# Altium footprint library Revo_element.PcbLib: 178 footprints (part 3 of 12)
Each footprint in its own frame and in the unit in brackets; x right, y up, seen from the top. Pads: shape width x height; smd on the part's side, far side on the other; paste and mask are expansions set on the pad; w line width, h text height; cw(c..) or ccw(c..) is an arc to the next point about the centre after c.
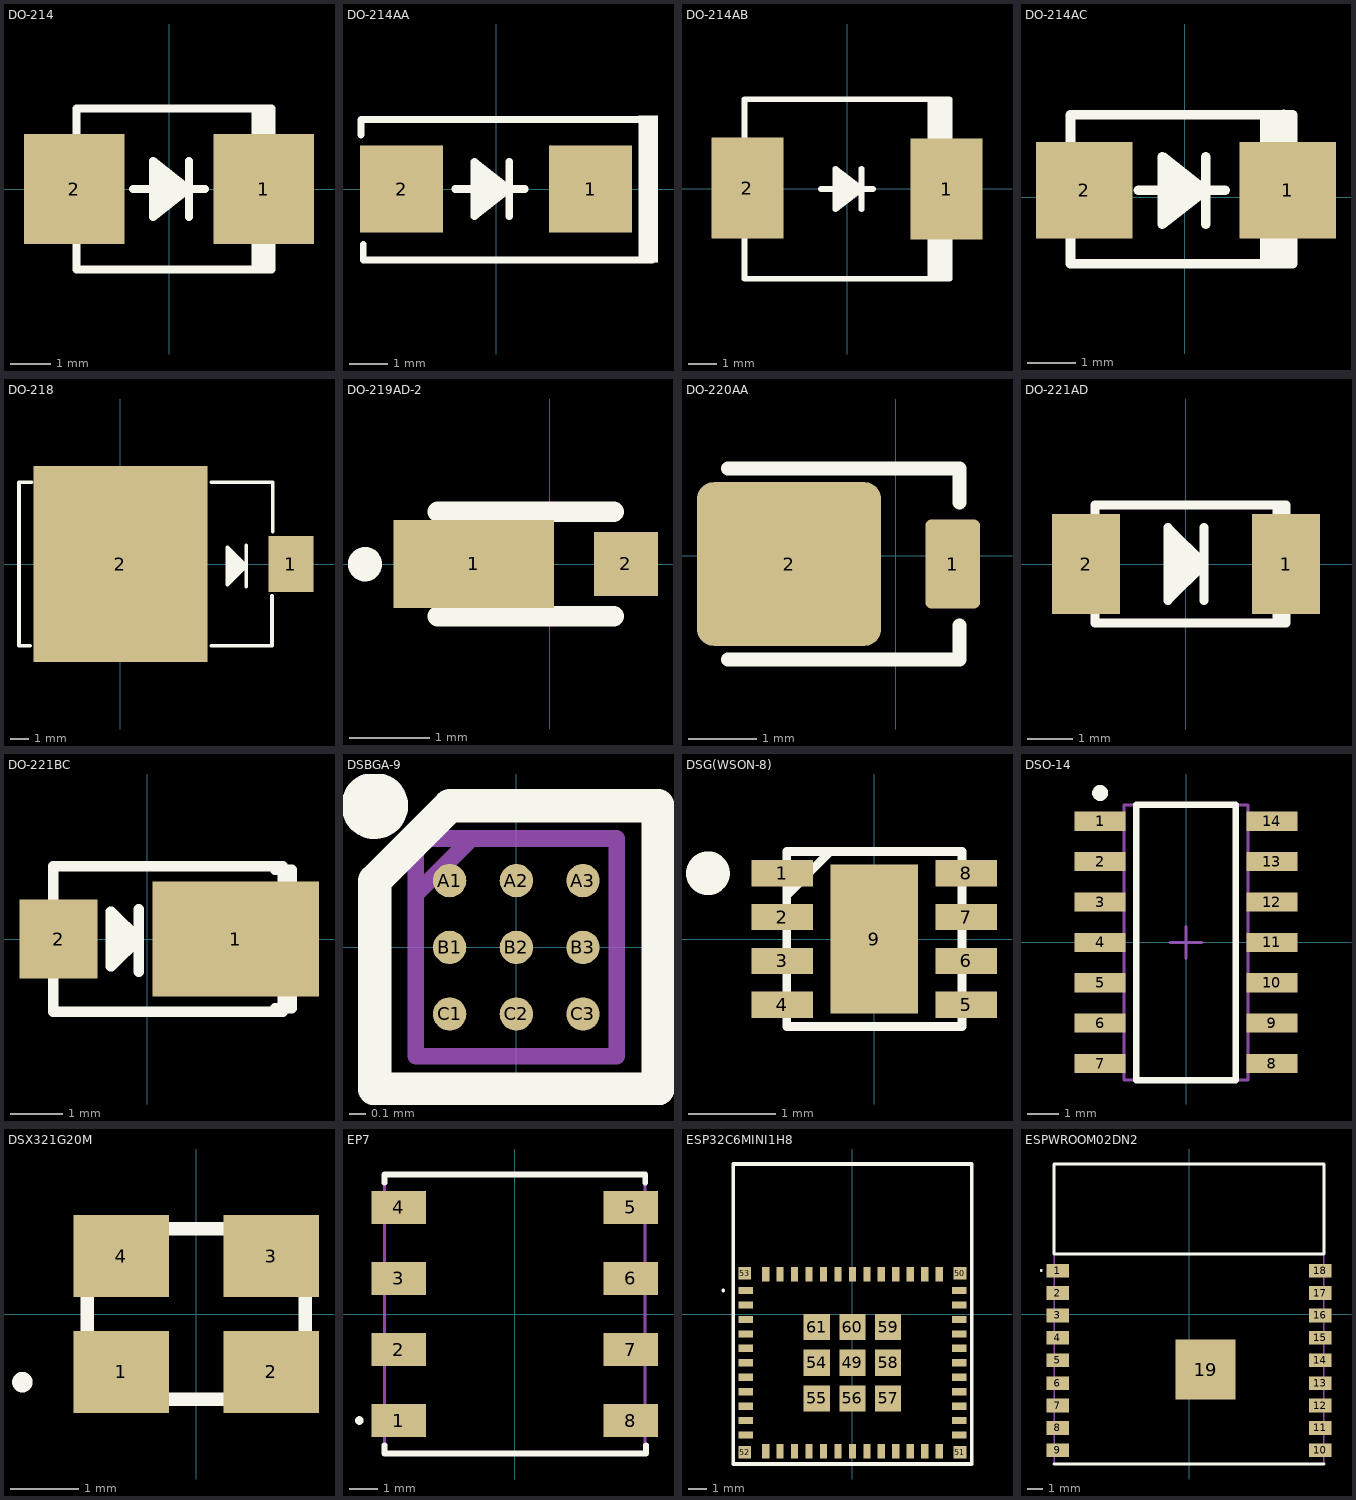
[diagram p2: the footprints below, top view; thin cyan lines are the x and y axes]

## DO-214 [mm]
pads (2):
  rect 2.5x2.75 smd: 1(2.36,0) 2(-2.36,0)
Top Overlay:
  lines w0.2: -0.9,0 0.9,0 ; 0.5,-0.7 0.5,0.7 ; 2.2,-2 2.25,-2 ; 2.2,-2 2.2,2 ; 2.2,-2 2.2,2 ; 2.2,-2 2.15,-2 2.15,2 2.2,2 ; 2.2,2 2.25,2 ; 2.25,-2 2.3,-2 ; 2.25,-2 2.25,2 ; 2.25,-2 2.25,2 ; 2.25,2 2.3,2 ; 2.3,-2 2.3,2 ; 2.3,-2 -2.3,-2 -2.3,2 2.3,2 ; 2.3,-2 2.35,-2 ; 2.3,-2 2.3,2 ; 2.3,-2 2.3,2 ; 2.3,2 2.35,2 ; 2.35,-2 2.35,2 ; 2.35,-2 2.4,-2 ; 2.35,-2 2.35,2 ; 2.35,2 2.4,2 ; 2.4,-2 2.4,2 ; 2.4,-2 2.45,-2 ; 2.4,-2 2.4,2 ; 2.4,2 2.45,2 ; 2.45,-2 2.45,2 ; 2.45,-2 2.5,-2 ; 2.45,-2 2.45,2 ; 2.45,2 2.5,2 ; 2.5,-2 2.5,2 ; 2.5,-2 2.55,-2 2.55,2 2.5,2 ; 2.5,-2 2.5,2 ; -0.4,-0.7 -0.4,0.7 0.5,0 -0.4,-0.7 ; -0.35,-0.6 -0.35,0.6 0.35,0.05 0.35,-0.05 -0.35,-0.6 ; -0.35,-0.5 -0.35,0.5 0.3,0 -0.35,-0.5 ; -0.35,-0.45 -0.35,0.4 0.2,0 -0.35,-0.45 ; -0.3,-0.35 -0.3,0.3 0.1,0 -0.3,-0.35 ; -0.25,-0.25 -0.25,0.2 0,0 -0.25,-0.25 ; -0.2,-0.1 -0.2,0.1 -0.1,0 -0.2,-0.1
3D body "DO-214AA.stp": height 2.65, standoff 0, extent -2.8,-1.975 2.8,1.975

## DO-214AA [mm]
pads (2):
  rect 2.16x2.26 smd: 1(2.45,0) 2(-2.45,0)
Top Overlay:
  region: 4.2,1.9 3.692,1.9 3.692,-1.9 4.2,-1.9
  lines w0.178: -3.5,1.4 -3.5,1.8 4,1.8 ; -3.446,-1.441 -3.446,-1.841 4.054,-1.841
  lines w0.2: -1.058,0 0.742,0 ; 0.342,-0.7 0.342,0.7 ; -0.558,-0.7 -0.558,0.7 0.342,0 -0.558,-0.7 ; -0.508,-0.6 -0.508,0.6 0.192,0.05 0.192,-0.05 -0.508,-0.6 ; -0.508,-0.5 -0.508,0.5 0.142,0 -0.508,-0.5 ; -0.508,-0.45 -0.508,0.4 0.042,0 -0.508,-0.45 ; -0.458,-0.35 -0.458,0.3 -0.058,0 -0.458,-0.35 ; -0.408,-0.25 -0.408,0.2 -0.158,0 -0.408,-0.25 ; -0.358,-0.1 -0.358,0.1 -0.258,0 -0.358,-0.1
3D body "User Library-DO-214AA SMB.step": height 2.3, standoff 0, extent -2.536,-1.8 2.864,1.8

## DO-214AB [mm]
pads (2):
  rect 2.5x3.5 smd: 1(3.45,-0.014) 2(-3.45,0.015)
Top Overlay:
  lines w0.2: -0.9,-0.014 0.9,-0.014 ; 0.5,-0.714 0.5,0.686 ; 2.891,-3.08 2.898,3.063 ; 3.065,-3.101 3.072,3.042 ; 3.19,-3.087 3.197,3.056 ; 3.378,-3.08 3.385,3.063 ; -3.555,-3.124 3.555,-3.124 3.555,3.096 -3.555,3.096 -3.555,-3.124 ; -0.4,-0.714 -0.4,0.686 0.5,-0.014 -0.4,-0.714 ; -0.35,-0.614 -0.35,0.586 0.35,0.036 0.35,-0.064 -0.35,-0.614 ; -0.35,-0.514 -0.35,0.486 0.3,-0.014 -0.35,-0.514 ; -0.35,-0.464 -0.35,0.386 0.2,-0.014 -0.35,-0.464 ; -0.3,-0.364 -0.3,0.286 0.1,-0.014 -0.3,-0.364 ; -0.25,-0.264 -0.25,0.186 0,-0.014 -0.25,-0.264 ; -0.2,-0.114 -0.2,0.086 -0.1,-0.014 -0.2,-0.114
3D body "DO-214AB.stp": height 2.65, standoff 0, extent -4.225,-3.125 3.925,3.125

## DO-214AC [mm]
pads (2):
  rect 2x2 smd: 1(2.129,0.143) 2(-2.086,0.143)
Top Overlay:
  lines w0.2: -0.971,0.143 0.829,0.143 ; 0.429,-0.557 0.429,0.843 ; 1.659,-1.373 1.659,1.713 ; 1.852,-1.373 1.852,1.713 ; 2.046,-1.369 2.046,1.717 ; -2.371,-1.373 2.229,-1.373 2.229,1.713 -2.371,1.713 -2.371,-1.373 ; -0.471,-0.557 0.429,0.143 -0.471,0.843 -0.471,-0.557 ; -0.421,-0.457 -0.421,0.743 0.279,0.193 0.279,0.093 -0.421,-0.457 ; -0.421,-0.357 -0.421,0.643 0.229,0.143 -0.421,-0.357 ; -0.421,-0.307 0.129,0.143 -0.421,0.543 -0.421,-0.307 ; -0.371,-0.207 0.029,0.143 -0.371,0.443 -0.371,-0.207 ; -0.321,-0.107 -0.321,0.343 -0.071,0.143 -0.321,-0.107 ; -0.271,0.043 -0.171,0.143 -0.271,0.243 -0.271,0.043
3D body "DO-214AC.stp": height 2.9, standoff 0, extent -2.871,-1.332 2.729,1.618

## DO-218 [mm]
pads (2):
  rect 2.4x3 smd: 1(9.129,0)
  rect 9.3x10.5 smd: 2(0,0)
Top Overlay:
  region: 5.729,-1.103 6.729,-0.103 5.729,0.897
  lines w0.2: -4.833,-4.371 -5.427,-4.371 -5.427,4.371 -4.757,4.371 ; 4.856,-4.371 8.115,-4.371 8.115,-1.709 ; 4.856,4.371 8.155,4.371 8.155,1.736 ; 5.829,0.597 5.829,-0.803 6.479,-0.153 5.879,0.447 5.879,-0.603 6.354,-0.128 5.929,0.297 5.929,-0.403 6.229,-0.103 6.029,0.097 6.029,-0.203 ; 5.929,0.597 6.479,0.047 ; 6.729,-1.203 6.729,0.997 ; 5.729,-1.103 6.729,-0.103 5.729,0.897 5.729,-1.103
3D body "User Library-DO-218AB.STEP": height 5, standoff 0, extent -5.429,-5 10,5

## DO-219AD-2 [mm]
pads (2):
  rect 2x1.1 smd: 1(-0.95,0)
  rect 0.8x0.8 smd: 2(0.95,0)
Top Overlay:
  circle w0.254: c-2.306,-0.002 r0.087
  lines w0.254: -1.4,-0.65 0.8,-0.65 ; -1.4,0.65 0.8,0.65
3D body "MSS1P3L-M3_89A.stp": height 0.68, standoff 0, extent -1.44,-0.628 1.06,0.672

## DO-220AA [mm]
pads (2):
  rrect20% 0.8x1.3 smd mask+0.05: 1(0.835,-0.118)
  rrect20% 2.7x2.4 smd mask+0.05: 2(-1.565,-0.118)
Top Overlay:
  lines w0.2: -2.465,-1.518 0.935,-1.518 0.935,-1.018 ; -2.465,1.282 0.935,1.282 0.935,0.782
3D body "User Library-DO-220AA-1.STEP": height 1.15, standoff 0, extent -2.794,-1.272 1.135,1.036

## DO-221AD [mm]
pads (2):
  rect 1.5x2.2 smd: 1(2.2,0) 2(-2.2,0)
Top Overlay:
  region: 2,-1.3 2,1.3 2.2,1.3 2.2,-1.3
  region: -0.4,-0.8 0.4,0 -0.4,0.8
  lines w0.2: 0.4,-0.8 0.4,0.8 ; 2,-1.3 2,1.3 ; 2,-1.3 -2,-1.3 -2,1.3 2,1.3 ; 2,-1.3 2.2,-1.3 2.2,1.3 2,1.3 ; 2,-1.3 2,1.3 ; -0.4,-0.8 -0.4,0.8 0.4,0 -0.4,-0.8
3D body "SlimSMAW.STEP": height 1, standoff 0, extent -2.329,-1.263 2.371,1.237

## DO-221BC [mm]
pads (2):
  rect 3.2x2.2 smd: 1(1.7,0)
  rect 1.5x1.52 smd: 2(-1.7,0)
Top Overlay:
  region: -0.703,-0.524 -0.703,0.524 -0.687,0.524 -0.163,0
  lines w0.2: -0.703,-0.524 -0.703,0.524 ; -0.687,-0.524 -0.163,0 -0.687,0.524 ; -0.163,-0.629 -0.163,0.576 ; 2.46,-1.33 2.78,-1.33 2.78,1.33 2.46,1.33 ; -1.8,-1.4 2.6,-1.4 2.6,1.4 -1.8,1.4 -1.8,-1.4
3D body "SMPA.STEP": height 0.96, standoff 0.01, extent -2.213,-1.319 2.987,1.281

## DSBGA-9 [mm]
pads (9):
  round 0.2 smd: A1(-0.4,0.4) A2(0,0.4) A3(0.4,0.4) B1(-0.4,0) B2(0,0) B3(0.4,0) C1(-0.4,-0.4) C2(0,-0.4) C3(0.4,-0.4)
Top Overlay:
  circle w0.2: c-0.85,0.85 r0.1
  lines w0.2: -0.85,-0.85 -0.85,0.4 -0.4,0.85 0.85,0.85 0.85,-0.85 -0.85,-0.85
Mechanical 13:
  lines w0.1: -0.603,0.319 -0.269,0.653 ; -0.603,-0.653 -0.603,0.653 0.603,0.653 0.603,-0.653 -0.603,-0.653
3D body "TPS61256CYFFR.stp": height 0.63, standoff 0, extent -0.603,-0.653 0.603,0.653

## DSG(WSON-8) [mm]
pads (9):
  rect 0.7x0.3 smd: 1(-1.05,0.75) 2(-1.05,0.25) 3(-1.05,-0.25) 4(-1.05,-0.75) 5(1.05,-0.75) 6(1.05,-0.25) 7(1.05,0.25) 8(1.05,0.75)
  rect 1x1.7 smd: 9(0,0)
Top Overlay:
  circle w0.25: c-1.9,0.75 r0.125
  lines w0.1: -1,0.5 -0.5,1 ; -1,-1 -1,1 1,1 1,-1 -1,-1
3D body "TPS7A2112PQWDSGRQ1.stp": height 0.77, standoff 0, extent -1,-1 1,1

## DSO-14 [mm] "SOIC,1.27mm pitch;14 pin,3.90mm W X 8.65mm L X 1.75mm H body"
height 1.75
pads (14):
  rect 1.6x0.6 smd paste+0 mask+0: 1(-2.7,3.81) 2(-2.7,2.54) 3(-2.7,1.27) 4(-2.7,0) 5(-2.7,-1.27) 6(-2.7,-2.54) 7(-2.7,-3.81) 8(2.7,-3.81) 9(2.7,-2.54) 10(2.7,-1.27) 11(2.7,0) 12(2.7,1.27) 13(2.7,2.54) 14(2.7,3.81)
Top Overlay:
  circle w0.25: c-2.7,4.699 r0.125
  lines w0.2: -1.57,-4.33 -1.57,4.33 1.57,4.33 1.57,-4.33 -1.57,-4.33
Mechanical 13:
  lines w0.1: -1.95,-4.325 -1.95,4.325 1.95,4.325 1.95,-4.325 -1.95,-4.325
Mechanical 15:
  lines w0.1: -0.5,0 0.5,0 ; 0,-0.5 0,0.5
3D body "PG-DSO-14-49_C66065-A5627-C001-04-0004.stp": height 1.76, standoff 0, extent -3,-4.325 3,4.325

## DSX321G20M [mm]
pads (4):
  rect 1.4x1.2 smd: 1(-1.1,-0.85) 2(1.1,-0.85) 3(1.1,0.85) 4(-1.1,0.85)
Top Overlay:
  lines w0.2: -2.6,-1 ccw(c-2.55,-1) -2.5,-1 ; -2.6,-1 cw(c-2.55,-1) -2.5,-1 ; -2.6,-1 ccw(c-2.55,-1) -2.5,-1 ; -1.6,-1.25 1.6,-1.25 1.6,1.25 -1.6,1.25 -1.6,-1.25
3D body "DSX321G-20M.stp": height 1.1, standoff 0, extent -1.68,-1.33 1.68,1.33

## EP7 [mm]
pads (8):
  rect 1.91x1.17 smd: 1(-4.065,-3.735) 2(-4.065,-1.245) 3(-4.065,1.245) 4(-4.065,3.735) 5(4.065,3.735) 6(4.065,1.245) 7(4.065,-1.245) 8(4.065,-3.735)
Top Overlay:
  lines w0.2: -4.57,-4.6 -4.57,-4.89 4.6,-4.89 4.6,-4.6 ; -4.57,4.6 -4.57,4.89 4.57,4.89 4.57,4.6 ; -5.5,-3.735 ccw(c-5.45,-3.735) -5.4,-3.735 ; -5.5,-3.735 ccw(c-5.45,-3.735) -5.4,-3.735 ; -5.5,-3.735 cw(c-5.45,-3.735) -5.4,-3.735
Mechanical 13:
  lines w0.1: -4.57,-4.89 -4.57,4.89 4.57,4.89 4.57,-4.89 -4.57,-4.89
3D body "750315213.stp": height 10.64, standoff 0, extent -4.903,-4.89 4.903,4.89

## ESP32C6MINI1H8 [mm]
pads (61):
  rect 0.8x0.4 smd: 1(-5.9,1.3) 2(-5.9,0.5) 3(-5.9,-0.3) 4(-5.9,-1.1) 5(-5.9,-1.9) 6(-5.9,-2.7) 7(-5.9,-3.5) 8(-5.9,-4.3) 9(-5.9,-5.1) 10(-5.9,-5.9) 11(-5.9,-6.7) 25(5.9,-6.7) 26(5.9,-5.9) 27(5.9,-5.1) 28(5.9,-4.3) 29(5.9,-3.5) 30(5.9,-2.7) 31(5.9,-1.9) 32(5.9,-1.1) 33(5.9,-0.3) 34(5.9,0.5) 35(5.9,1.3)
  rect 0.4x0.8 smd: 12(-4.8,-7.6) 13(-4,-7.6) 14(-3.2,-7.6) 15(-2.4,-7.6) 16(-1.6,-7.6) 17(-0.8,-7.6) 18(0,-7.6) 19(0.8,-7.6) 20(1.6,-7.6) 21(2.4,-7.6) 22(3.2,-7.6) 23(4,-7.6) 24(4.8,-7.6) 36(4.8,2.2) 37(4,2.2) 38(3.2,2.2) 39(2.4,2.2) 40(1.6,2.2) 41(0.8,2.2) 42(0,2.2) 43(-0.8,2.2) 44(-1.6,2.2) 45(-2.4,2.2) 46(-3.2,2.2) 47(-4,2.2) 48(-4.8,2.2)
  rect 1.45x1.45 smd: 49(0,-2.7) 54(-1.975,-2.7) 55(-1.975,-4.675) 56(0,-4.675) 57(1.975,-4.675) 58(1.975,-2.7) 59(1.975,-0.725) 60(0,-0.725) 61(-1.975,-0.725)
  rect 0.7x0.7 smd: 50(5.95,2.25) 51(5.95,-7.65) 52(-5.95,-7.65) 53(-5.95,2.25)
Top Overlay:
  lines w0.1: -7.2,1.3 cw(c-7.15,1.3) -7.1,1.3 cw(c-7.15,1.3) -7.2,1.3
  lines w0.2: -6.6,-8.3 6.6,-8.3 6.6,8.3 -6.6,8.3 -6.6,-8.3
Mechanical 13:
  lines w0.1: -6.6,-8.3 6.6,-8.3 6.6,8.3 -6.6,8.3 -6.6,-8.3
3D body "ESP32-C6-MINI-1-H8.stp": height 2.55, standoff 0, extent -6.6,-8.3 6.6,8.3

## ESPWROOM02DN2 [mm]
pads (19):
  rect 1.5x0.9 smd: 1(-8.75,2.9) 2(-8.75,1.4) 3(-8.75,-0.1) 4(-8.75,-1.6) 5(-8.75,-3.1) 6(-8.75,-4.6) 7(-8.75,-6.1) 8(-8.75,-7.6) 9(-8.75,-9.1) 10(8.75,-9.1) 11(8.75,-7.6) 12(8.75,-6.1) 13(8.75,-4.6) 14(8.75,-3.1) 15(8.75,-1.6) 16(8.75,-0.1) 17(8.75,1.4) 18(8.75,2.9)
  rect 4x4 smd: 19(1.1,-3.71)
Top Overlay:
  lines w0.1: -9.9,2.9 cw(c-9.85,2.9) -9.8,2.9 cw(c-9.85,2.9) -9.9,2.9
  lines w0.2: -9,-10 9,-10 ; -9,4 9,4 9,10 -9,10 -9,4
Mechanical 13:
  lines w0.1: -9,4 9,4 ; -9,-10 9,-10 9,10 -9,10 -9,-10
3D body "ESP-WROOM-02D-N2.stp": height 3.2, standoff 0, extent -9,-10 9,10